# Altium footprint library INDM1250X1250X800L275X500N.PcbLib: 1 footprints
Each footprint in its own frame and in the unit in brackets; x right, y up, seen from the top. Pads: shape width x height; smd on the part's side, far side on the other; paste and mask are expansions set on the pad; w line width, h text height; cw(c..) or ccw(c..) is an arc to the next point about the centre after c.
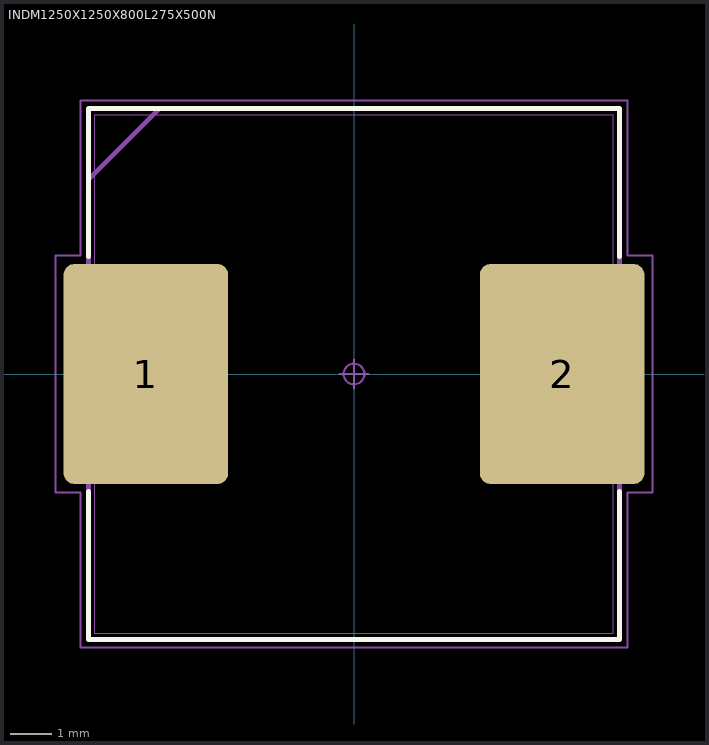
[diagram p0: the footprint, top view; thin cyan lines are the x and y axes]

## INDM1250X1250X800L275X500N [mm] "Inductor, Molded Body; 12.50 mm L X 12.50 mm W X 8.00 mm H body"
height 8
pads (2):
  rrect13% 3.97x5.31 smd: 1(-5.02,0) 2(5.02,0)
Top Overlay:
  lines w0.12: -6.4,-2.835 -6.4,-6.4 6.4,-6.4 6.4,-2.835 ; -6.4,2.835 -6.4,6.4 6.4,6.4 6.4,2.835
Mechanical 3:
  lines w0.12: -6.4,-6.4 6.4,-6.4 6.4,6.4 -4.7,6.4 -6.4,4.7 -6.4,-6.4
Mechanical 5:
  lines w0.025: -6.25,-6.25 6.25,-6.25 6.25,6.25 -6.25,6.25 -6.25,-6.25 ; -6.25,-2.5 -6.25,2.5 -3.5,2.5 -3.5,-2.5 -6.25,-2.5 ; 3.5,-2.5 6.25,-2.5 6.25,2.5 3.5,2.5 3.5,-2.5
Mechanical 7:
  circle w0.05: c0,0 r0.25
  lines w0.05: -0.35,0 0.35,0 ; 0,-0.35 0,0.35 ; -7.205,-2.855 -6.6,-2.855 -6.6,-6.6 6.6,-6.6 6.6,-2.855 7.205,-2.855 7.205,2.855 6.6,2.855 6.6,6.6 -6.6,6.6 -6.6,2.855 -7.205,2.855 -7.205,-2.855
Mechanical 9:
  text "'.Designator'" at -3.7,-0.3 h1
3D body "INDM1250X1250X800L275X500.STEP": height 8, standoff 0, extent -6.25,-6.25 6.25,6.25
3D body: height 1, standoff 0, extent -7.205,-6.6 7.205,6.6